# EAGLE library part TPS63031 (library riley)
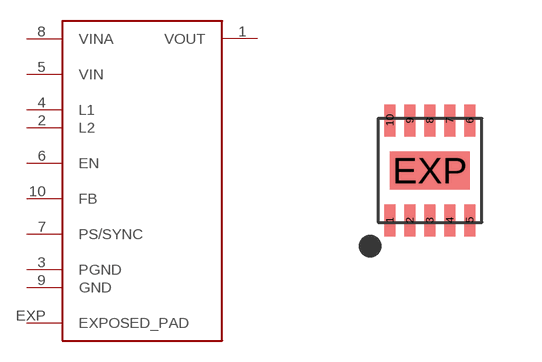
[diagram p3: symbol with the pads of 10SON; footprint 10SON]

Designator prefix -

## TPS63031  [10SON]
1  VOUT
2  L2
3  PGND
4  L1
5  VIN
6  EN
7  PS/SYNC
8  VINA
9  GND
10  FB
EXP  EXPOSED_PAD

## Footprint 10SON (pad centres in mm)
smd 0.28 x 0.8: 1 -1,-1.25; 2 -0.5,-1.25; 3 0,-1.25; 4 0.5,-1.25; 5 1,-1.25; 6 1,1.25; 7 0.5,1.25; 8 0,1.25; 9 -0.5,1.25; 10 -1,1.25
smd 2 x 0.95: EXP 0,0